# EAGLE library part ADXL345 (library WarthogRobotics-Sensors)
ACCELEROMETER
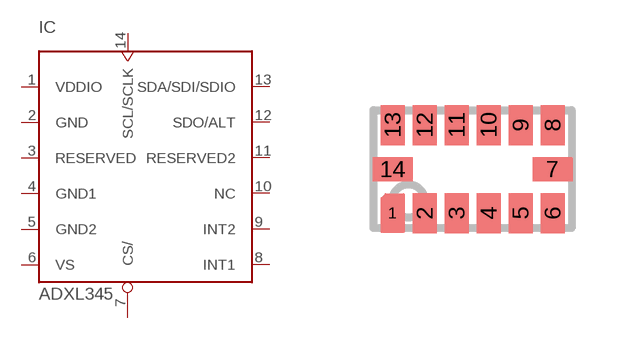
[diagram p0: symbol with the pads of LGA-14(N); footprint LGA-14(N)]

Designator prefix IC

## ADXL345  [LGA-14(N)]
1  VDDIO  pwr
2  GND  pwr
3  RESERVED  pwr
4  GND1  pwr
5  GND2  pwr
6  VS  pwr
7  CS/  in
8  INT1  out
9  INT2  out
10  NC  nc
11  RESERVED2  pwr
12  SDO/ALT  out
13  SDA/SDI/SDIO  in
14  SCL/SCLK

## Footprint LGA-14(N) (pad centres in mm)
LGA 3x5x1 14L Land Grid Array Package Source: DM00027543-118326.pdf
smd 0.4 x 0.4: 1 -2,-1.1
smd 0.6 x 1: 2 -1.2,-1.1; 3 -0.4,-1.1; 4 0.4,-1.1; 5 1.2,-1.1; 6 2,-1.1; 8 2,1.1; 9 1.2,1.1; 10 0.4,1.1; 11 -0.4,1.1; 12 -1.2,1.1; 13 -2,1.1
smd 1 x 0.6: 7 2,0; 14 -2,0